# EAGLE library part 2X10-* (library jt-con-tyco)
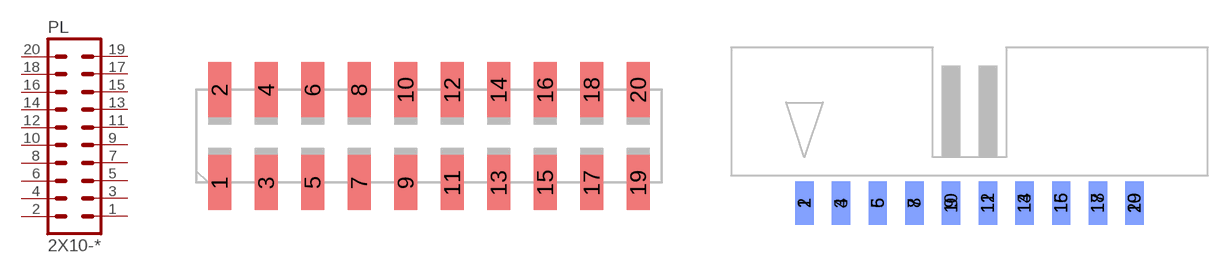
[diagram p11: symbol with the pads of AMP-1241050-10; footprints AMP-1241050-10, DS-2X10]

Designator prefix PL

## 2X10-1241050  [AMP-1241050-10]
1  1  pas
2  2  pas
3  3  pas
4  4  pas
5  5  pas
6  6  pas
7  7  pas
8  8  pas
9  9  pas
10  10  pas
11  11  pas
12  12  pas
13  13  pas
14  14  pas
15  15  pas
16  16  pas
17  17  pas
18  18  pas
19  19  pas
20  20  pas

## 2X10-EDGE  [DS-2X10]
Pads as for AMP-1241050-10

## Footprint AMP-1241050-10 (pad centres in mm)
smd 1.27 x 3: 1 -11.43,-2.54; 2 -11.43,2.54; 3 -8.89,-2.54; 4 -8.89,2.54; 5 -6.35,-2.54; 6 -6.35,2.54; 7 -3.81,-2.54; 8 -3.81,2.54; 9 -1.27,-2.54; 10 -1.27,2.54; 11 1.27,-2.54; 12 1.27,2.54; 13 3.81,-2.54; 14 3.81,2.54; 15 6.35,-2.54; 16 6.35,2.54; 17 8.89,-2.54; 18 8.89,2.54; 19 11.43,-2.54; 20 11.43,2.54

## Footprint DS-2X10 (pad centres in mm)
smd 1.27 x 3: 1 -11.43,-1.905; 3 -8.89,-1.905; 5 -6.35,-1.905; 7 -3.81,-1.905; 9 -1.27,-1.905; 11 1.27,-1.905; 13 3.81,-1.905; 15 6.35,-1.905; 17 8.89,-1.905; 19 11.43,-1.905
smd 1.27 x 3 bottom: 2 -11.43,-1.905; 4 -8.89,-1.905; 6 -6.35,-1.905; 8 -3.81,-1.905; 10 -1.27,-1.905; 12 1.27,-1.905; 14 3.81,-1.905; 16 6.35,-1.905; 18 8.89,-1.905; 20 11.43,-1.905